# Altium footprint library Res.PcbLib: 1 footprints
Each footprint in its own frame and in the unit in brackets; x right, y up, seen from the top. Pads: shape width x height; smd on the part's side, far side on the other; paste and mask are expansions set on the pad; w line width, h text height; cw(c..) or ccw(c..) is an arc to the next point about the centre after c.
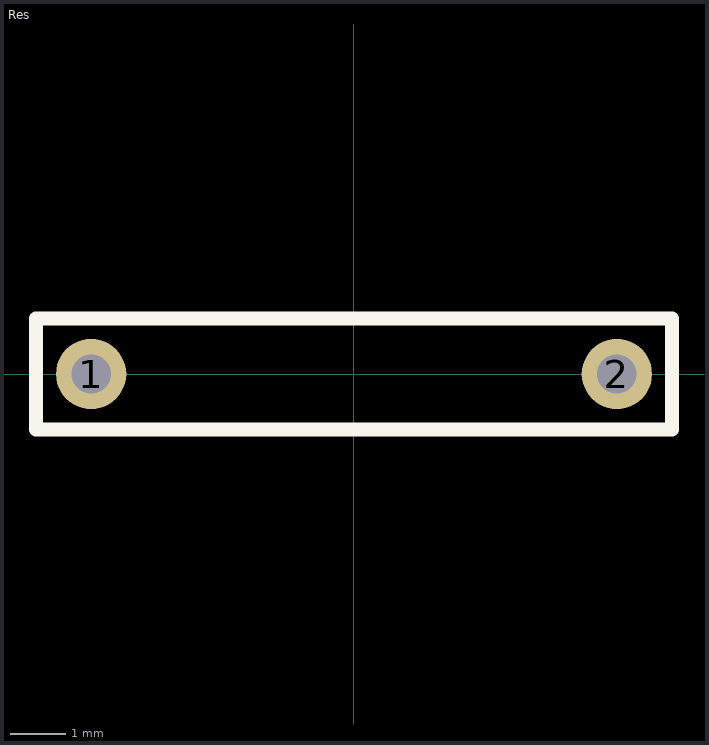
[diagram p0: the footprint, top view; thin cyan lines are the x and y axes]

## Res [mil]
height 196.85
pads (2):
  round 50 hole 28: 1(-187.01,0) 2(187.01,0)
Top Overlay:
  lines w10: -226.38,-39.37 226.38,-39.37 226.38,39.37 -226.38,39.37 -226.38,-39.37